# Altium footprint library syhaunguyen.PcbLib: 329 footprints (part 20 of 21)
Each footprint in its own frame and in the unit in brackets; x right, y up, seen from the top. Pads: shape width x height; smd on the part's side, far side on the other; paste and mask are expansions set on the pad; w line width, h text height; cw(c..) or ccw(c..) is an arc to the next point about the centre after c.
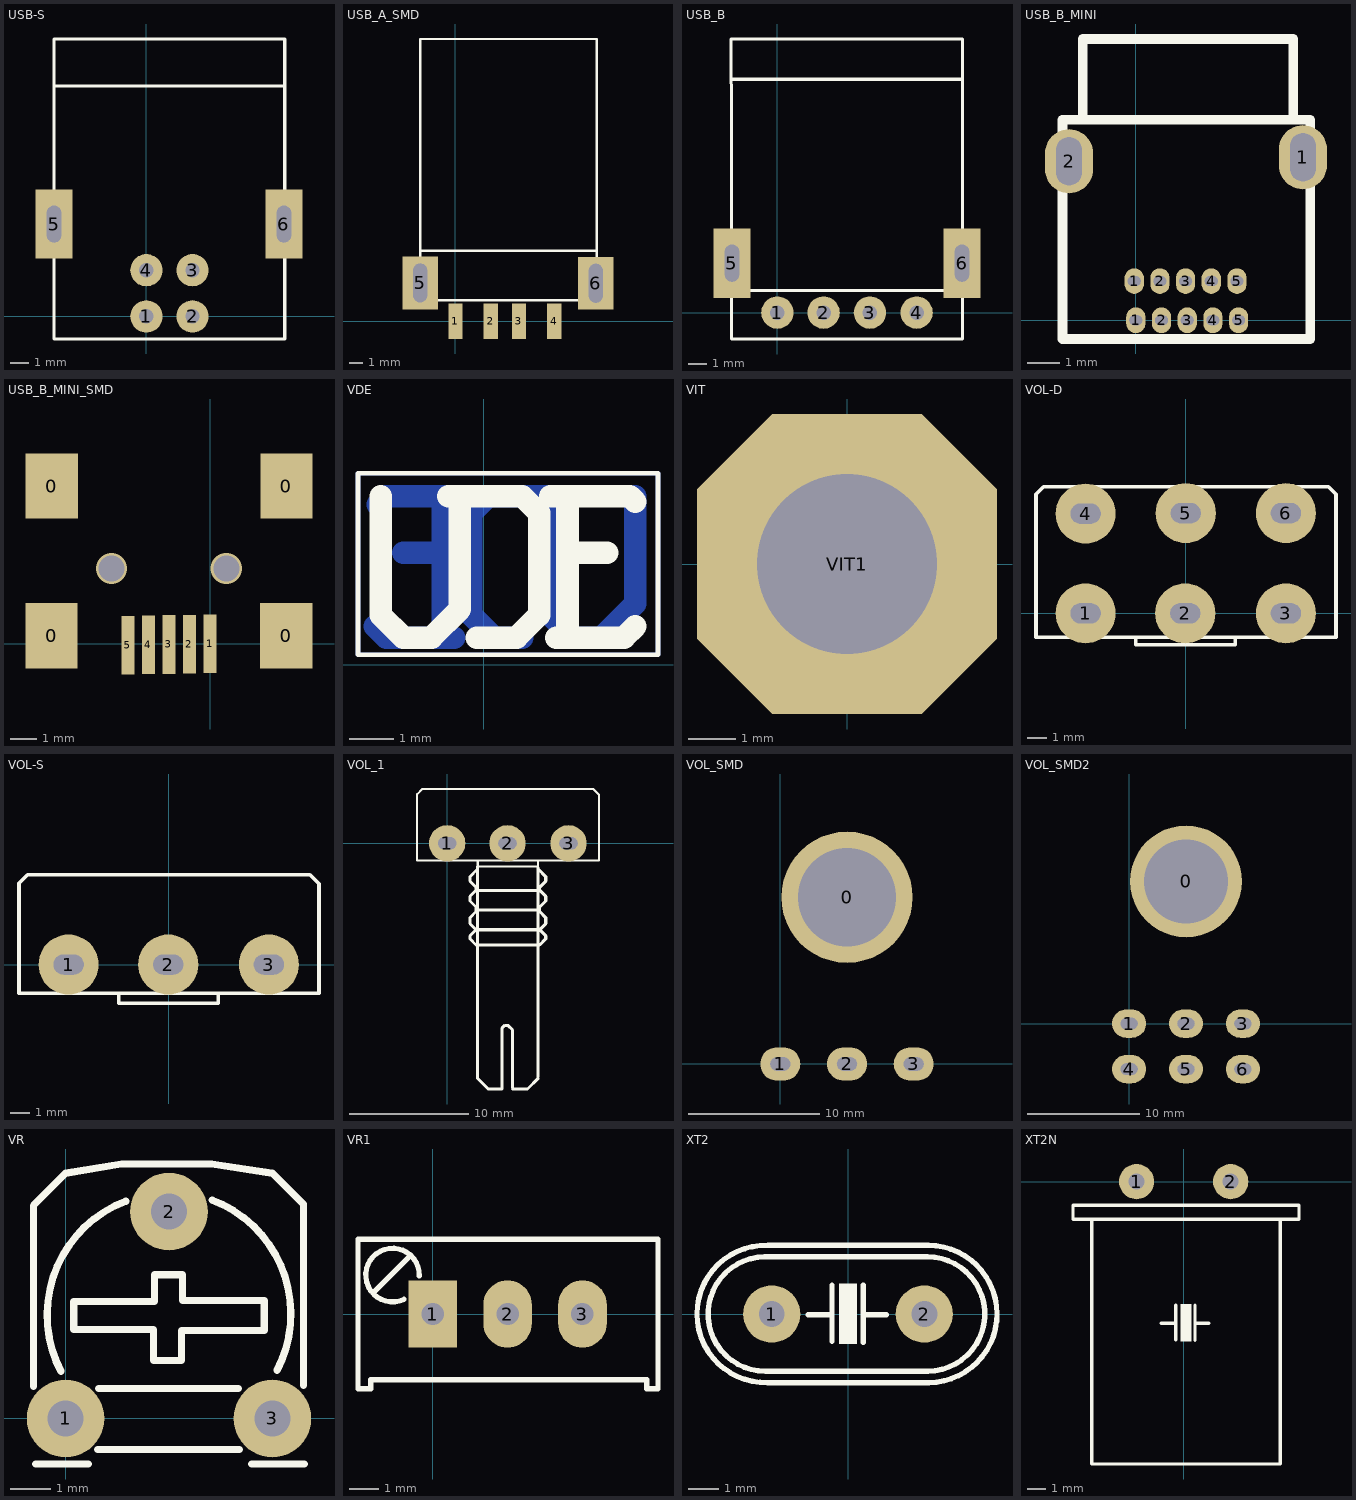
[diagram p19: the footprints below, top view; thin cyan lines are the x and y axes]

## USB-S [mil] "USB B connector, 4pin, For Print"
height 100
pads (6):
  round 70 hole 31: 1(0,0) 2(100,0) 3(100,100) 4(0,100)
  rect 80x150 hole 31 slot 80 at 90 deg: 5(-200,200) 6(298,200)
Top Overlay:
  lines w7: -200,499 300,499 ; -200,-49 -200,601 300,601 300,-49 -200,-49
3D body: height 421.26, standoff -155.51, extent -243.31,-39.61 343.31,610

## USB_A_SMD [mil] "For USB SMD"
height 150
pads (6):
  rect 40x100 smd: 1(0,0) 2(100,0) 3(180,0) 4(280,0)
  rect 100x150 hole 40 slot 110 at 90 deg: 5(-100,109) 6(398,108)
Top Overlay:
  lines w7: -100,200 400,200 ; -100,60 400,60 400,800 -100,800 -100,60
3D body: height 73.83, standoff -103.33, extent -93.44,62.17 379,783.83

## USB_B [mil] "USB A connector, 4pin, For USB sing"
height 100
pads (6):
  round 70 hole 31: 1(0,0) 2(100,0) 3(200,0) 4(301,0)
  rect 80x150 hole 31 slot 80 at 90 deg: 5(-98,107) 6(399,107)
Top Overlay:
  lines w7: -99,504 400,504 ; -98,48 401,48 ; -100,591 400,591 400,-57 -99,-57 -99,397 -100,591
3D body: height 277.51, standoff -149.84, extent -162.02,-58 460.02,512.87

## USB_B_MINI [mm]
pads (12):
  oval 0.6x0.8 hole 0.3 slot 0.4 at 0 deg: 1(-0.051,1.219) 1(0,0) 2(0.749,1.219) 2(0.8,0) 3(1.549,1.219) 3(1.6,0) 4(2.349,1.219) 4(2.4,0) 5(3.149,1.219) 5(3.2,0)
  oval 1.5x2 hole 0.8 slot 1.5 at 90 deg: 1(5.207,5.08) 2(-2.083,4.953)
Top Overlay:
  lines w0.3: -1.651,6.299 -1.651,8.763 4.902,8.763 4.902,6.35 ; -2.286,-0.584 -2.286,6.248 5.436,6.248 5.436,-0.584 -2.286,-0.584
3D body: height 3.92, standoff -1.68, extent -2.266,-0.561 5.436,8.791

## USB_B_MINI_SMD [mm]
pads (9):
  rect 2x2.5 smd: 0(-6.075,0.305) 0(-6.071,6.045) 0(2.925,0.305) 0(2.929,6.045)
  rect 0.5x2.25 smd: 1(0,0) 2(-0.787,-0.013) 3(-1.575,-0.025) 4(-2.362,-0.038) 5(-3.15,-0.051)
via -3.775,2.885 diameter 1.2 hole 1
via 0.625,2.885 diameter 1.2 hole 1
3D body: height 3.95, standoff -1, extent -6.925,-0.368 3.775,8.832

## VDE [mil] "VDE - SM"
Bottom Layer:
  lines w4: -111,9 154,9 154,169 -111,169 -111,9
  lines w20: -96,34 -86,24 -71,24 -36,24 -36,149 -86,149 -93.5,141.5 ; -71,99 -36,99 ; -61,149 -21,149 ; -51,24 -26,24 ; 34,24 9,24 -11,44 -11,134 4,149 69,149 ; 54,149 54,49 79,24 104,24 134,54 134,149
Top Overlay:
  lines w4: -111,9 -111,169 154,169 154,9 -111,9
  lines w20: -91,149 -91,44 -71,24 -61,24 -56,24 -46,24 -21,49 -21,149 34,149 49,134 49,44 29,24 -6,24 ; -31,149 9,149 ; 59,149 89,149 ; 64,24 124,24 134,34 ; 74,34 74,149 129,149 134,144 ; 74,99 109,99

## VIT [mil] "VIT"
height 0.2
pads (1):
  oct 250x250 hole 150: VIT1(0,0)

## VOL-D [mil] "Volume control Dual"
height 400
pads (6):
  round 120 hole 40 slot 60 at 0 deg: 1(-200,0) 2(-1,0) 3(200,0) 4(-200,199) 5(0,200) 6(200,200)
Top Overlay:
  lines w7: -100,-48 -100,-63 99,-63 99,-48 ; -299,-48 300,-48 300,238 285,253 -284,253 -299,238 -299,-48
3D body: height 834.65, standoff -129.92, extent -338.65,-1309.27 330.65,299

## VOL-S [mil] "Volume control single"
height 400
pads (3):
  round 120 hole 40 slot 60 at 0 deg: 1(-200,0) 2(-1,0) 3(200,0)
Top Overlay:
  lines w7: -100,-57 -100,-77 99,-77 99,-57 ; -299,-57 -299,162 -282,179 282,179 300,161 300,-57 -299,-57

## VOL_1 [mil]
pads (3):
  round 120 hole 40 slot 60 at 0 deg: 1(0,0) 2(199,0) 3(400,0)
Top Overlay:
  lines w7: 100,-57 100,-77 299,-77 299,-57 ; 101,-77 101,-57 ; -99,-57 500,-57 500,161 482,179 -82,179 -99,162 -99,-57
  lines w10: 95,-335 75,-315 75,-305 95,-285 75,-265 75,-245 95,-225 95,-210 75,-190 75,-175 95,-155 95,-145 75,-125 75,-110 100,-85 ; 95,-220 300,-220 ; 100,-770 100,-77 ; 100,-760 100,-775 135,-810 180,-810 180,-610 190,-600 200,-600 215,-615 215,-805 ; 100,-335 305,-335 325,-315 325,-305 305,-285 ; 100,-285 305,-285 ; 105,-155 300,-155 ; 215,-810 265,-810 300,-775 ; 300,-770 300,-80 ; 300,-85 325,-110 325,-125 305,-145 305,-155 325,-175 325,-190 305,-210 305,-225 325,-245 325,-265 305,-285
3D body: height 839.35, standoff -130, extent -110,-818.11 510,188.11

## VOL_SMD [mil]
pads (4):
  round 393.7 hole 295.28: 0(200,500)
  oval 120x100 hole 40 slot 60 at 0 deg: 1(0,0) 2(200,0) 3(400,0)
Bottom Overlay:
  circle w12: c200,500 r215.01
  circle w12: c0,150 r50
  circle w12: c200,150 r50
  circle w12: c400,150 r50
  lines w12: -57.25,301.71 cw(c200,500) 455.57,299.55 ; -55,299 127,299 ; -49,700 119,700 ; 281,298 455,298 ; 286,698 454,698 ; 455,295 500,250 500,-75 -100,-75 -100,255 ; -100,255 -55,300 -100,255
3D body: height 866.14, standoff -407.48, extent -203.15,-247.08 600,947.08

## VOL_SMD2 [mil]
pads (7):
  round 393.7 hole 295.28: 0(200,500)
  oval 120x100 hole 40 slot 60 at 0 deg: 1(0,0) 2(200,0) 3(400,0) 4(0,-160) 5(200,-160) 6(400,-160)
Bottom Overlay:
  circle w12: c400,150 r50
  circle w12: c200,150 r50
  circle w12: c0,150 r50
  circle w12: c200,500 r215.01
  lines w12: -100,-70 -100,-230 500,-230 500,-70 ; -57.25,301.71 cw(c200,500) 455.57,299.55 ; -55,299 127,299 ; -49,700 119,700 ; 281,298 455,298 ; 286,698 454,698 ; 455,295 500,250 500,-75 -100,-75 -100,255 ; -100,255 -55,300 -100,255

## VR [mil] "Resistor Variable"
height 200
pads (3):
  round 75 hole 35: 1(0,0) 2(100,200) 3(200,0)
Top Overlay:
  lines w7: -31,31 -31,206 0,237 54,246 141.5,246 200,237 230,207 230,32 ; -29,-44 22,-44 ; -4.35,45.34 cw(c100,100) 58.1,210.1 ; 8,113 8,86 85,86 85,56 112,56 112,85 192,85 192,114 113,114 113,139 86,139 86,113 9,113 ; 31,-30 168,-30 ; 32,29 167,29 ; 141.9,211.1 cw(c100,101) 204.35,46.34 ; 180,-44 231,-44
3D body: height 165.35, standoff -220.47, extent -86.85,-30 306.85,371.57

## VR1 [mil] "Variable Resistor"
height 400
pads (3):
  rect 65x90 hole 30: 1(0,0)
  oval 65x90 hole 30: 2(100,0) 3(200,0)
Top Overlay:
  lines w7: -80,28 -30,78 ; -38.6,19.63 cw(c-53.79,52.05) -18.01,50.77 ; -100,-100 -100,100 301,100 301,-100 286,-100 286,-88 -83,-88 -83,-100 -100,-100
3D body: height 455, standoff -45, extent -87.5,-130 287.5,110

## XT2 [mil] "Footpin for Crystal 2 pin"
pads (2):
  round 75 hole 34: 1(-100,0) 2(100,0)
Top Overlay:
  region: 11.5,40 11.5,-39 -11.5,-39 -11.5,40
  lines w7: -109,75 ccw(c-108.5,0) -108.27,-75 ; -106.97,-75 103.03,-75 ; -105.97,75 104.03,75 ; -105.02,-90 105.91,-90 ccw(c105.31,0) 105.03,90 -104.97,90.01 ccw(c-108,0.06) -105.02,-89.89 ; -52,-1 -21,-1 ; -21,-36 -21,38 ; 20,-37 20,38 ; 20,-1 50,-1 ; 104,75 cw(c104.23,0) 104.73,-75
3D body: height 137.8, standoff -157.48, extent -233.43,-93.07 213.43,90

## XT2N [mil] "Crystal 2pin, high 200 mil"
height 200
pads (2):
  round 75 hole 34: 1(-100,0) 2(100,0)
Top Overlay:
  region: 16.5,-260 16.5,-339 -6.5,-339 -6.5,-260
  lines w7: -48,-301 -17,-301 ; -17,-336 -17,-262 ; 24,-337 24,-262 ; 24,-301 54,-301 ; -235,-80 -195,-80 ; -235,-80 -235,-50 ; -235,-80 -195,-80 ; -235,-80 -235,-50 ; -235,-50 245,-50 ; -235,-50 245,-50 ; -195,-600 -195,-80 ; -195,-600 205,-600 ; -195,-600 -195,-80 ; -195,-600 205,-600 ; -195,-80 205,-80 ; -195,-80 205,-80 ; 205,-600 205,-80 ; 205,-600 205,-80 ; 205,-80 245,-80 ; 205,-80 245,-80 ; 245,-80 245,-50 ; 245,-80 245,-50
3D body: height 91.44, standoff -92.52, extent -209.86,-594.33 230,14.33